# EAGLE library part ADUM7241_SOIC (library jonsowman)
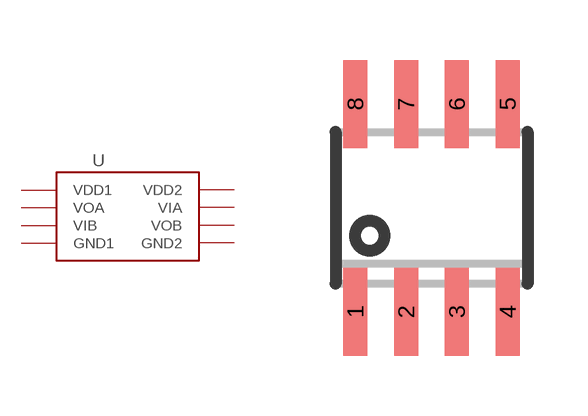
[diagram p22: symbol with the pads of SO8; footprint SO8]

Designator prefix -

## ADUM7241_SOIC  [SO8]
1  VDD1
2  VOA
3  VIB
4  GND1
5  VDD2
6  VIA
7  VOB
8  GND2

## Footprint SO8 (pad centres in mm)
SMALL OUTLINE INTEGRATED CIRCUIT
smd 0.6 x 2.2: 1 -1.905,-2.6; 2 -0.635,-2.6; 3 0.635,-2.6; 4 1.905,-2.6; 5 1.905,2.6; 6 0.635,2.6; 7 -0.635,2.6; 8 -1.905,2.6